# Altium schematic symbol library TMLM05105.Schlib: 1 symbol
Pins are listed as number, name and electrical type; pins without a type are passive.

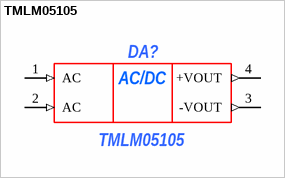
[diagram p0: symbol TMLM05105]

## TMLM05105
designator DA?
ComponentLink1Description: *; ComponentLink1URL: *; ComponentLink2Description: *; ComponentLink2URL: *; ManufacturerPartNumber: TMLM05105; Power/Voltage: *; Rem: *; TKE: *; Tolerance: *; TU/GOST: *; Value: *; Корпус: *; Примечание: *; Manufacturer: *; Author: *; Type: *
footprint TMLM05105
pins: 1 AC (in), 2 AC (in), 3 -VOUT (out), 4 +VOUT (out)
text: AC/DC